# Altium footprint library Passives-SMD_BEAD.PCBLIB: 8 footprints
Each footprint in its own frame and in the unit in brackets; x right, y up, seen from the top. Pads: shape width x height; smd on the part's side, far side on the other; paste and mask are expansions set on the pad; w line width, h text height; cw(c..) or ccw(c..) is an arc to the next point about the centre after c.
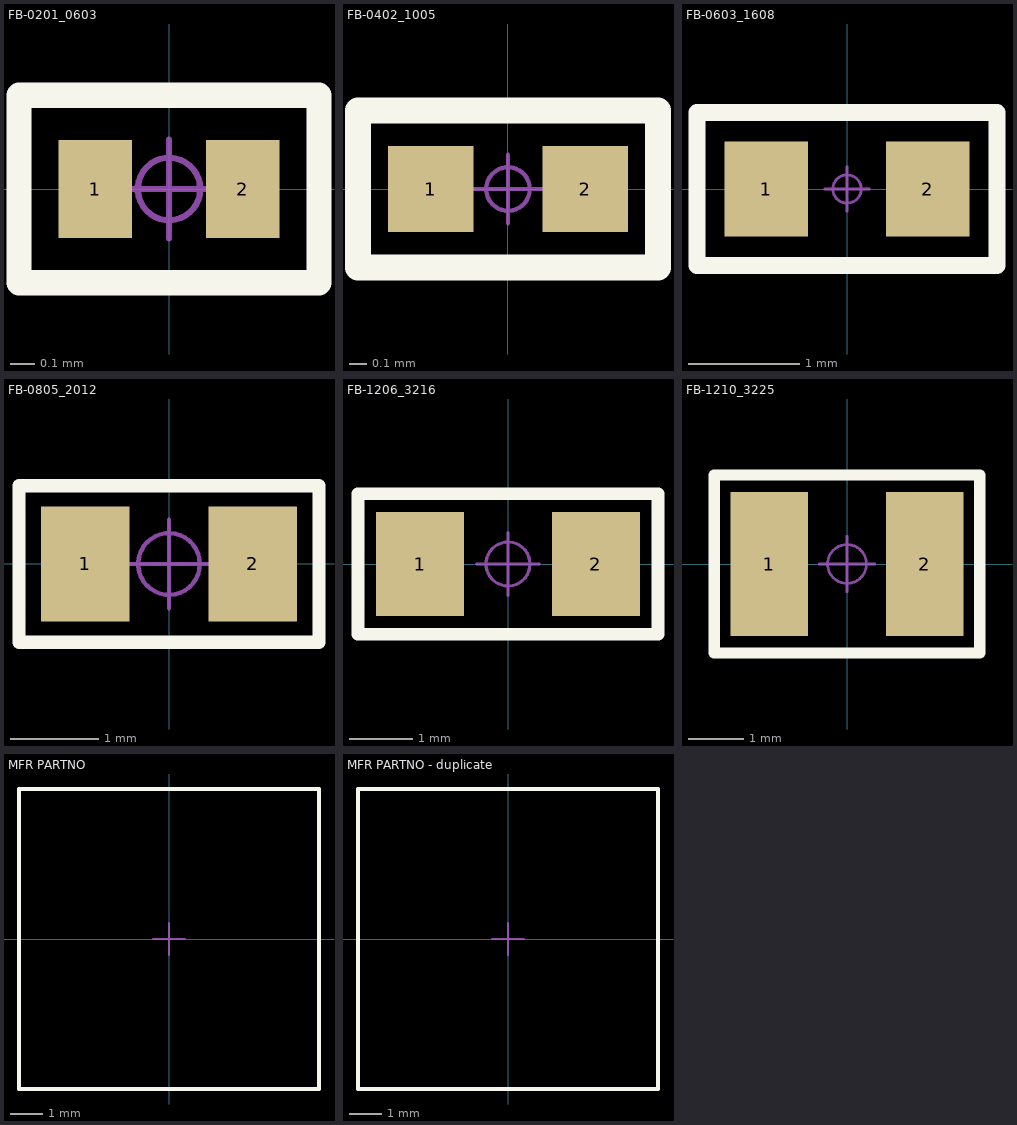
[diagram p0: the footprints below, top view; thin cyan lines are the x and y axes]

## FB-0201_0603 [mm]
pads (2):
  rect 0.3x0.4 smd: 1(-0.3,0) 2(0.3,0)
Top Overlay:
  lines w0.102: -0.61,-0.381 -0.61,0.381 0.61,0.381 0.61,-0.381 -0.61,-0.381
Top 中心点:
  circle w0.025: c0,0 r0.127
  lines w0.025: -0.2,0 0.2,0 ; 0,-0.2 0,0.2
3D body "L0201-2S.stp": height 0.4, standoff 0.1, extent -0.3,-0.15 0.3,0.15
3D body "L0201-2S.stp": height 0.4, standoff 0.1, extent -0.3,-0.15 0.3,0.15

## FB-0402_1005 [mm]
pads (2):
  rect 0.5x0.5 smd: 1(-0.45,0) 2(0.45,0)
Top Overlay:
  lines w0.152: -0.875,-0.457 0.875,-0.457 0.875,0.457 -0.875,0.457 -0.875,-0.457
Top 中心点:
  circle w0.025: c0,0 r0.127
  lines w0.025: -0.2,0 0.2,0 ; 0,-0.2 0,0.2
3D body "FB0402-2S.stp": height 0.52, standoff 0, extent -0.51,-0.26 0.51,0.26

## FB-0603_1608 [mm]
pads (2):
  rect 0.75x0.85 smd: 1(-0.725,0) 2(0.725,0)
Top Overlay:
  lines w0.152: -1.346,-0.686 1.346,-0.686 1.346,0.686 -1.346,0.686 -1.346,-0.686
Top 中心点:
  circle w0.025: c0,0 r0.127
  lines w0.025: -0.2,0 0.2,0 ; 0,-0.2 0,0.2
3D body "L0603H08-2S.stp": height 0.8, standoff 0, extent -0.8,-0.4 0.8,0.4

## FB-0805_2012 [mm]
pads (2):
  rect 1x1.3 smd: 1(-0.95,0) 2(0.95,0)
Top Overlay:
  lines w0.152: -1.702,-0.889 -1.702,0.889 1.702,0.889 1.702,-0.889 -1.702,-0.889
Top 中心点:
  circle w0.05: c0,0 r0.35
  lines w0.05: -0.5,0 0.5,0 ; 0,-0.5 0,0.5
3D body "L0805H13-2S.stp": height 1.3, standoff 0, extent -1,-0.65 1,0.65

## FB-1206_3216 [mm]
pads (2):
  rect 1.4x1.65 smd: 1(-1.4,0) 2(1.4,0)
Top Overlay:
  lines w0.203: -2.388,-1.118 -2.388,1.118 2.388,1.118 2.388,-1.118 -2.388,-1.118
Top 中心点:
  circle w0.05: c0,0 r0.35
  lines w0.05: -0.5,0 0.5,0 ; 0,-0.5 0,0.5
3D body "L1206-2S.stp": height 1.1, standoff 0, extent -1.6,-0.798 1.6,0.798

## FB-1210_3225 [mm] "记得设置高度"
pads (2):
  rect 1.4x2.6 smd: 1(-1.4,0) 2(1.4,0)
Top Overlay:
  lines w0.203: -2.388,-1.6 2.388,-1.6 2.388,1.6 -2.388,1.6 -2.388,-1.6
Top 中心点:
  circle w0.05: c0,0 r0.35
  lines w0.05: -0.5,0 0.5,0 ; 0,-0.5 0,0.5
3D body "L1210-2S.stp": height 0.92, standoff 0.02, extent -1.6,-1.26 1.6,1.26

## MFR PARTNO [mm] "记得设置高度"
Top Overlay:
  lines w0.127: -4.7,-4.7 4.7,-4.7 4.7,4.7 -4.7,4.7 -4.7,-4.7
Top 元件外形:
  lines w0.127: -4.7,-4.7 -4.7,4.7 4.7,4.7 4.7,-4.7 -4.7,-4.7
Top 中心点:
  lines w0.051: -0.5,0 0.5,0 ; 0,-0.5 0,0.5

## MFR PARTNO - duplicate [mm] "记得设置高度"
Top Overlay:
  lines w0.127: -4.7,-4.7 4.7,-4.7 4.7,4.7 -4.7,4.7 -4.7,-4.7
Top 元件外形:
  lines w0.127: -4.7,-4.7 -4.7,4.7 4.7,4.7 4.7,-4.7 -4.7,-4.7
Top 中心点:
  lines w0.051: -0.5,0 0.5,0 ; 0,-0.5 0,0.5